# EAGLE library part 87831-08 (library components)
Milli-Grid Header 2.00mm (.079") Pitch
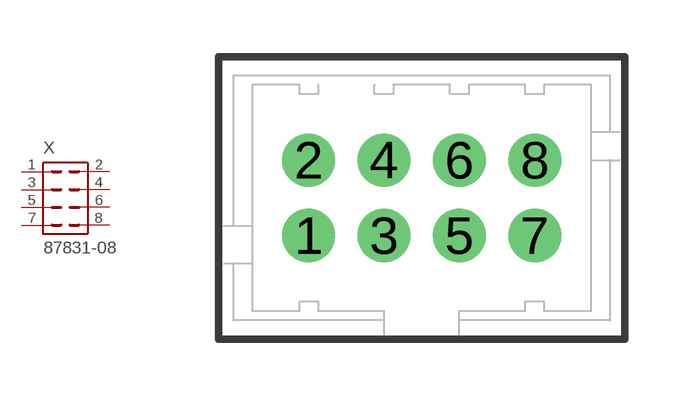
[diagram p2: symbol with the pads of 87831-08; footprint 87831-08]

Designator prefix X

## 87831-08 (OC_FARNELL: unknown; OC_NEWARK: unknown)  [87831-08]
1  1  pas
2  2  pas
3  3  pas
4  4  pas
5  5  pas
6  6  pas
7  7  pas
8  8  pas

## Footprint 87831-08 (pad centres in mm)
PCB Headers 2.00mm (.079") Pitch Milli-Grid Header, Vertical, Shrouded
drill 0.9: 1 -3,-1; 2 -3,1; 3 -1,-1; 4 -1,1; 5 1,-1; 6 1,1; 7 3,-1; 8 3,1